# Altium footprint library Teensy.PcbLib: 1 footprints
Each footprint in its own frame and in the unit in brackets; x right, y up, seen from the top. Pads: shape width x height; smd on the part's side, far side on the other; paste and mask are expansions set on the pad; w line width, h text height; cw(c..) or ccw(c..) is an arc to the next point about the centre after c.
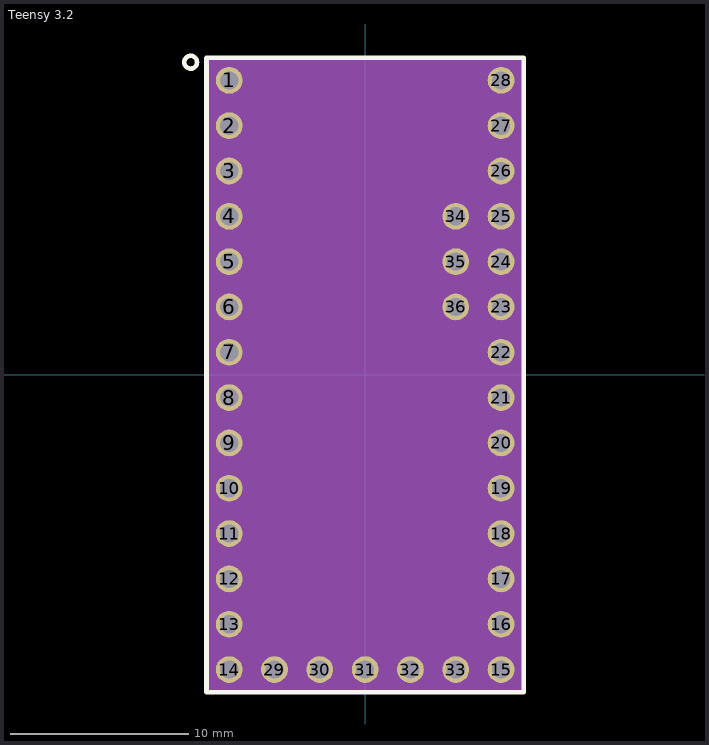
[diagram p0: the footprint, top view; thin cyan lines are the x and y axes]

## Teensy 3.2 [mm]
pads (36):
  round 1.5 hole 1.02 mask+0.102: 1(-7.62,16.51) 2(-7.62,13.97) 3(-7.62,11.43) 4(-7.62,8.89) 5(-7.62,6.35) 6(-7.62,3.81) 7(-7.62,1.27) 8(-7.62,-1.27) 9(-7.62,-3.81) 10(-7.62,-6.35) 11(-7.62,-8.89) 12(-7.62,-11.43) 13(-7.62,-13.97) 14(-7.62,-16.51) 15(7.62,-16.51) 16(7.62,-13.97) 17(7.62,-11.43) 18(7.62,-8.89) 19(7.62,-6.35) 20(7.62,-3.81) 21(7.62,-1.27) 22(7.62,1.27) 23(7.62,3.81) 24(7.62,6.35) 25(7.62,8.89) 26(7.62,11.43) 27(7.62,13.97) 28(7.62,16.51) 29(-5.08,-16.51) 30(-2.54,-16.51) 31(0,-16.51) 32(2.54,-16.51) 33(5.08,-16.51) 34(5.08,8.89) 35(5.08,6.35) 36(5.08,3.81)
Top Overlay:
  circle w0.254: c-9.779,17.526 r0.359
  lines w0.254: -8.89,-17.78 8.89,-17.78 8.89,17.78 -8.89,17.78 -8.89,-17.78
Mechanical 13:
  rectangle: -8.89,-17.78 8.89,17.78